# Altium footprint library LuxLogger_V2_pcb.PcbLib: 28 footprints (part 2 of 2)
Each footprint in its own frame and in the unit in brackets; x right, y up, seen from the top. Pads: shape width x height; smd on the part's side, far side on the other; paste and mask are expansions set on the pad; w line width, h text height; cw(c..) or ccw(c..) is an arc to the next point about the centre after c.
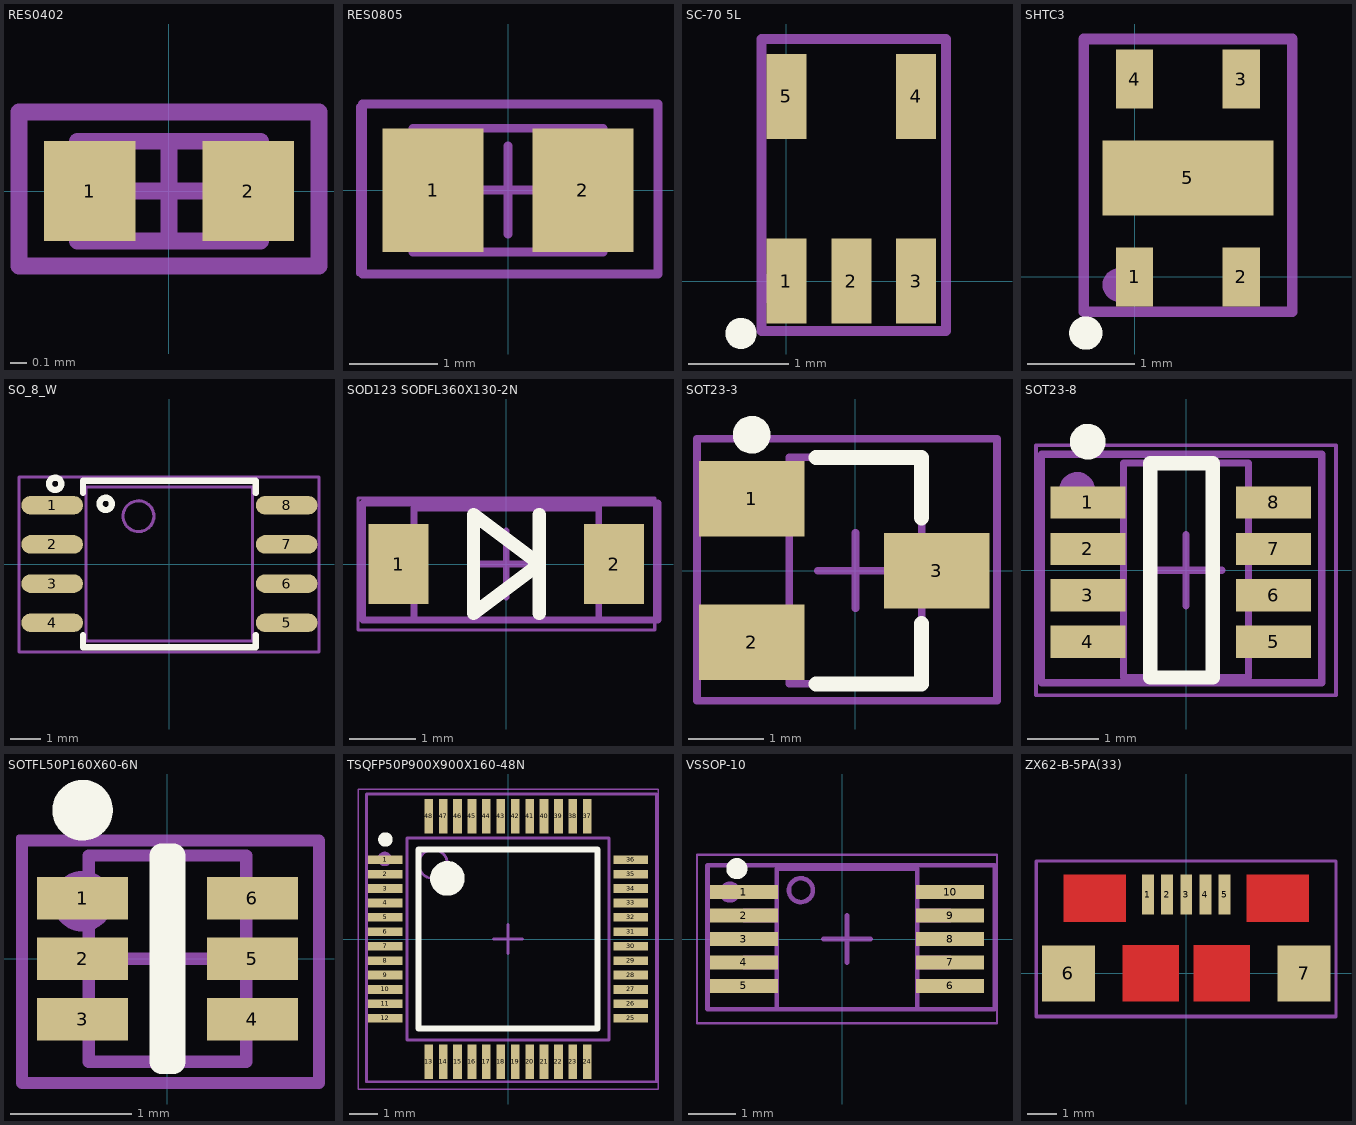
[diagram p1: the footprints below, top view; thin cyan lines are the x and y axes]

## RES0402 [mm]
pads (2):
  rect 0.55x0.6 smd: 1(-0.475,0) 2(0.475,0)
Mechanical 2:
Mechanical 13:
  lines w0.1: -0.55,-0.3 0.55,-0.3 0.55,0.3 -0.55,0.3 -0.55,-0.3
Mechanical 15:
  lines w0.05: -0.9,-0.45 0.9,-0.45 0.9,0.45 -0.9,0.45 -0.9,-0.45
  lines w0.1: -0.3,0 0.3,0 ; 0,-0.3 0,0.3
Mechanical 29:
  lines w0.1: -0.9,-0.45 0.9,-0.45 0.9,0.475 -0.9,0.475 -0.9,-0.45
  text "'.Designator'" at 0.692,0.248 h0.5
3D body: height 0.4, standoff 0, extent -0.55,-0.3 -0.35,0.3
3D body: height 0.4, standoff 0, extent -0.35,-0.3 0.35,0.3
3D body: height 0.4, standoff 0, extent 0.35,-0.3 0.55,0.3

## RES0805 [mm]
pads (2):
  rect 1.15x1.4 smd: 1(-0.85,0) 2(0.85,0)
Mechanical 2:
Mechanical 13:
  lines w0.1: -1.075,-0.7 -1.075,0.7 1.075,0.7 1.075,-0.7 -1.075,-0.7
Mechanical 15:
  lines w0.05: -1.7,-0.95 -1.7,0.95 1.7,0.95 1.7,-0.95 -1.7,-0.95
  lines w0.1: -0.5,0 0.5,0 ; 0,-0.5 0,0.5
Mechanical 29:
  lines w0.1: -1.65,-0.95 -1.65,0.975 1.7,0.975 1.7,-0.95 -1.65,-0.95
  text "'.Designator'" at 0.4,0.3 h0.5
3D body: height 0.65, standoff 0, extent -1.075,-0.7 -0.675,0.7
3D body: height 0.65, standoff 0, extent -0.675,-0.7 0.675,0.7
3D body: height 0.65, standoff 0, extent 0.675,-0.7 1.075,0.7

## SC-70 5L [mm]
pads (5):
  rect 0.4x0.85 smd: 1(0,0) 2(0.65,0) 3(1.3,0) 4(1.3,1.85) 5(0,1.85)
Top Overlay:
  circle w0.2: c-0.456,-0.525 r0.056
Mechanical 29:
  circle w0.2: c-0.144,-0.075 r0.056
  lines w0.1: -0.25,-0.5 1.6,-0.5 1.6,2.425 -0.25,2.425 -0.25,-0.5
  text "'.Designator'" at 0.059,0.548 h0.8
3D body: height 1.1, standoff 0, extent -0.45,0.25 1.75,1.6

## SHTC3 [mm]
pads (5):
  rect 0.35x0.55 smd: 1(0,0) 2(1,0) 3(1,1.85) 4(0,1.85)
  rect 1.6x0.7 smd: 5(0.5,0.925)
Top Overlay:
  circle w0.2: c-0.456,-0.525 r0.056
Mechanical 15:
  lines w0.1: -0.475,-0.325 1.475,-0.325 1.475,2.225 -0.475,2.225 -0.475,-0.325
Mechanical 29:
  circle w0.2: c-0.144,-0.075 r0.056
  lines w0.1: -0.475,-0.325 -0.475,2.225 1.475,2.225 1.475,-0.325 -0.475,-0.325
  text "'.Designator'" at 1.15,1.328 h0.8
3D body: height 0.75, standoff 0, extent -0.5,-0.075 1.5,1.925

## SO_8_W [mm]
pads (8):
  oval 2x0.6 smd: 1(-3.8,1.905) 2(-3.8,0.635) 3(-3.8,-0.635) 4(-3.8,-1.905) 5(3.8,-1.905) 6(3.8,-0.635) 7(3.8,0.635) 8(3.8,1.905)
Top Overlay:
  circle w0.2: c-3.7,2.6 r0.2
  circle w0.2: c-2.064,1.95 r0.2
  lines w0.2: -2.8,-2.3 -2.8,-2.7 2.8,-2.7 2.8,-2.3 ; -2.8,2.3 -2.8,2.7 2.8,2.7 2.8,2.3
Mechanical 13:
  circle w0.1: c-1,1.55 r0.5
  lines w0.1: -2.7,-2.5 -2.7,2.5 2.7,2.5 2.7,-2.5 -2.7,-2.5
Mechanical 29:
  circle w0.25: c-3.925,1.925 r0.125
  lines w0.1: -4.875,-2.85 -4.875,2.825 4.85,2.825 4.85,-2.85 -4.875,-2.85
  text "'.Designator'" at -1.906,-1.185 h1.52
3D body "User Library-SOIC8_Wide_5mmx5mm.step": height 1.75, standoff -0.01, extent -4.052,-2.73 4.05,2.73

## SOD123 SODFL360X130-2N [mm]
pads (2):
  rect 0.91x1.22 smd: 1(-1.635,0) 2(1.635,0)
Top Overlay:
  lines w0.2: 0.5,-0.75 0.5,0.75 0.5,0 ; 0.5,0 -0.5,0.75 -0.5,-0.75 0.5,0
Mechanical 13:
  lines w0.1: -1.4,-0.85 1.4,-0.85 1.4,0.85 -1.4,0.85 -1.4,-0.85
Mechanical 15:
  lines w0.05: -2.25,-1 2.25,-1 2.25,1 -2.25,1 -2.25,-1
  lines w0.1: -0.5,0 0.5,0 ; 0,-0.5 0,0.5
Mechanical 29:
  lines w0.1: -2.175,-0.85 -2.175,0.925 2.3,0.925 2.3,-0.85 -2.175,-0.85
  text "A" at -1.988,-0.607 h0.7
  text "'.Designator'" at -0.436,-0.329 h0.7
3D body: height 1.3, standoff 0, extent -1.4,-0.85 1.4,0.85

## SOT23-3 [mm]
pads (3):
  rect 1.4x1 smd: 1(-1.375,0.95) 2(-1.375,-0.95) 3(1.075,0)
Top Overlay:
  circle w0.25: c-1.375,1.8 r0.125
  lines w0.2: -0.525,-1.5 0.875,-1.5 0.875,-0.7 ; -0.525,1.5 0.875,1.5 0.875,0.7
Mechanical 13:
  lines w0.1: -0.875,-1.5 -0.875,1.5 0.875,1.5 0.875,-1.5 -0.875,-1.5
Mechanical 15:
  lines w0.05: -2.1,-1.75 -2.1,1.75 1.875,1.75 1.875,-1.75 -2.1,-1.75
  lines w0.1: -0.5,0 0.5,0 ; 0,-0.5 0,0.5
Mechanical 29:
  lines w0.1: -2.1,-1.725 1.875,-1.725 1.875,1.75 -2.1,1.75 -2.1,-1.725
  text "'.Designator'" at 0.776,0.519 h1
3D body "SOT95P280X110-3N.step": height 1.1, standoff 0, extent -1.7,-1.5 1.3,1.5

## SOT23-8 [mm]
pads (8):
  rect 1.05x0.45 smd: 1(-1.375,0.95) 2(-1.375,0.3) 3(-1.375,-0.35) 4(-1.375,-1) 5(1.225,-1) 6(1.225,-0.35) 7(1.225,0.3) 8(1.225,0.95)
Top Overlay:
  circle w0.25: c-1.375,1.8 r0.125
  lines w0.2: -0.5,-1.5 -0.5,1.5 0.375,1.5 0.375,-1.5 -0.5,-1.5
Mechanical 13:
  lines w0.1: -0.875,-1.5 0.875,-1.5 0.875,1.5 -0.875,1.5 -0.875,-1.5
Mechanical 15:
  lines w0.05: -2.1,-1.75 2.1,-1.75 2.1,1.75 -2.1,1.75 -2.1,-1.75
  lines w0.1: -0.5,0 0.5,0 ; 0,-0.5 0,0.5
Mechanical 29:
  circle w0.25: c-1.525,1.125 r0.125
  lines w0.1: -2.025,-1.575 1.9,-1.575 1.9,1.625 -2.025,1.625 -2.025,-1.575
  text "'.Designator'" at -0.814,-0.626 h1
3D body: height 1.1, standoff 0, extent -0.925,-1.425 0.725,1.525

## SOTFL50P160X60-6N [mm]
pads (6):
  rect 0.75x0.35 smd: 1(-0.7,0.5) 2(-0.7,0) 3(-0.7,-0.5) 4(0.7,-0.5) 5(0.7,0) 6(0.7,0.5)
Top Overlay:
  circle w0.25: c-0.7,1.225 r0.125
  lines w0.2: -0.05,-0.85 0.05,-0.85 0.05,0.85 -0.05,0.85 -0.05,-0.85
Mechanical 13:
  lines w0.1: -0.65,-0.85 -0.65,0.85 0.65,0.85 0.65,-0.85 -0.65,-0.85
Mechanical 15:
  lines w0.05: -1.225,-1 -1.225,1 1.225,1 1.225,-1 -1.225,-1
  lines w0.1: -0.5,0 0.5,0 ; 0,-0.5 0,0.5
Mechanical 29:
  circle w0.25: c-0.7,0.475 r0.125
  lines w0.1: -1.2,-1.025 -1.2,0.975 1.25,0.975 1.25,-1.025 -1.2,-1.025
  text "'.Designator'" at 0.596,-0.678 h0.8
3D body "DRL6.step": height 0.6, standoff 0, extent -0.85,-0.85 0.85,0.85

## TSQFP50P900X900X160-48N [mm]
pads (48):
  rect 1.2x0.3 smd: 1(-4.25,2.75) 2(-4.25,2.25) 3(-4.25,1.75) 4(-4.25,1.25) 5(-4.25,0.75) 6(-4.25,0.25) 7(-4.25,-0.25) 8(-4.25,-0.75) 9(-4.25,-1.25) 10(-4.25,-1.75) 11(-4.25,-2.25) 12(-4.25,-2.75) 25(4.25,-2.75) 26(4.25,-2.25) 27(4.25,-1.75) 28(4.25,-1.25) 29(4.25,-0.75) 30(4.25,-0.25) 31(4.25,0.25) 32(4.25,0.75) 33(4.25,1.25) 34(4.25,1.75) 35(4.25,2.25) 36(4.25,2.75)
  rect 0.3x1.2 smd: 13(-2.75,-4.25) 14(-2.25,-4.25) 15(-1.75,-4.25) 16(-1.25,-4.25) 17(-0.75,-4.25) 18(-0.25,-4.25) 19(0.25,-4.25) 20(0.75,-4.25) 21(1.25,-4.25) 22(1.75,-4.25) 23(2.25,-4.25) 24(2.75,-4.25) 37(2.75,4.25) 38(2.25,4.25) 39(1.75,4.25) 40(1.25,4.25) 41(0.75,4.25) 42(0.25,4.25) 43(-0.25,4.25) 44(-0.75,4.25) 45(-1.25,4.25) 46(-1.75,4.25) 47(-2.25,4.25) 48(-2.75,4.25)
Top Overlay:
  circle w0.6: c-2.1,2.1 r0.3
  circle w0.25: c-4.25,3.45 r0.125
  lines w0.2: -3.1,-3.1 3.1,-3.1 3.1,3.1 -3.1,3.1 -3.1,-3.1
Mechanical 13:
  circle w0.1: c-2.6,2.6 r0.5
  lines w0.1: -3.5,-3.5 -3.5,3.5 3.5,3.5 3.5,-3.5 -3.5,-3.5
Mechanical 15:
  lines w0.05: -5.2,-5.2 -5.2,5.2 5.2,5.2 5.2,-5.2 -5.2,-5.2
  lines w0.1: -0.5,0 0.5,0 ; 0,-0.5 0,0.5
Mechanical 29:
  circle w0.25: c-4.275,2.775 r0.125
  lines w0.1: -4.9,-4.95 5.15,-4.95 5.15,5.025 -4.9,5.025 -4.9,-4.95
  text "'.Designator'" at 0.9,1.163 h1.52
3D body: height 1.6, standoff 0.05, extent -3.5,-3.5 3.5,3.5

## VSSOP-10 [mm]
pads (10):
  rect 1.45x0.3 smd: 1(-2.1,1) 2(-2.1,0.5) 3(-2.1,0) 4(-2.1,-0.5) 5(-2.1,-1) 6(2.3,-1) 7(2.3,-0.5) 8(2.3,0) 9(2.3,0.5) 10(2.3,1)
Top Overlay:
  circle w0.25: c-2.25,1.5 r0.1
Mechanical 2:
Mechanical 13:
  circle w0.1: c-0.884,1.041 r0.254
  lines w0.1: -1.4,-1.1 -2.1,-1.1 -2.1,-1 -2.1,-0.9 -1.4,-0.9 ; -1.4,-0.6 -2.1,-0.6 -2.1,-0.5 -2.1,-0.4 -1.4,-0.4 ; -1.4,-0.1 -2.1,-0.1 -2.1,0 -2.1,0.1 -1.4,0.1 ; -1.4,0.4 -2.1,0.4 -2.1,0.5 -2.1,0.6 -1.4,0.6 ; -1.4,0.9 -2.1,0.9 -2.1,1 -2.1,1.1 -1.4,1.1 ; 1.6,-1.1 2.3,-1.1 2.3,-1 2.3,-0.9 1.6,-0.9 ; 1.6,-0.6 2.3,-0.6 2.3,-0.5 2.3,-0.4 1.6,-0.4 ; 1.6,-0.1 2.3,-0.1 2.3,0 2.3,0.1 1.6,0.1 ; 1.6,0.4 2.3,0.4 2.3,0.5 2.3,0.6 1.6,0.6 ; 1.6,0.9 2.3,0.9 2.3,1 2.3,1.1 1.6,1.1 ; -1.4,-1.5 -1.4,1.5 1.6,1.5 1.6,-1.5 -1.4,-1.5
Mechanical 15:
  lines w0.05: -3.1,-1.8 -3.1,1.8 3.3,1.8 3.3,-1.8 -3.1,-1.8
  lines w0.1: -0.4,0 0.6,0 ; 0.1,-0.5 0.1,0.5
Mechanical 29:
  circle w0.25: c-2.4,1 r0.1
  lines w0.1: -2.875,-1.5 -2.875,1.575 3.25,1.575 3.25,-1.5 -2.875,-1.5
  text "'.Designator'" at -1.75,-0.75 h1.52
3D body "User Library-msop-10.step": height 1.15, standoff 0, extent -2.35,-1.5 2.55,1.5

## ZX62-B-5PA(33) [mm]
pads (7):
  rect 0.4x1.35 smd: 1(-1.3,2.675) 2(-0.65,2.675) 3(0,2.675) 4(0.65,2.675) 5(1.3,2.675)
  rect 1.8x1.9 smd: 6(-4,0) 7(4,0)
Top Layer:
  region: 2.05,3.35 4.15,3.35 4.15,1.75 2.05,1.75
  region: -4.15,3.35 -2.05,3.35 -2.05,1.75 -4.15,1.75
  region: -2.15,0.95 -0.25,0.95 -0.25,-0.95 -2.15,-0.95
  region: 0.25,0.95 2.15,0.95 2.15,-0.95 0.25,-0.95
Top Paste:
  region: -4.15,3.35 -2.05,3.35 -2.05,1.75 -4.15,1.75
  region: 2.05,3.35 4.15,3.35 4.15,1.75 2.05,1.75
  region: -2.15,0.95 -0.25,0.95 -0.25,-0.95 -2.15,-0.95
  region: 0.25,0.95 2.15,0.95 2.15,-0.95 0.25,-0.95
Top Solder:
  region: -4.25,3.45 -1.95,3.45 -1.95,1.65 -4.25,1.65
  region: 1.95,3.45 4.25,3.45 4.25,1.65 1.95,1.65
  region: -2.25,1.05 -0.15,1.05 -0.15,-1.05 -2.25,-1.05
  region: 0.15,1.05 2.25,1.05 2.25,-1.05 0.15,-1.05
Mechanical 15:
  lines w0.1: -5.08,-1.45 5.08,-1.45 5.08,3.81 -5.08,3.81 -5.08,-1.45
Mechanical 29:
  lines w0.1: -5.095,-1.475 5.075,-1.475 5.075,3.811 -5.095,3.811 -5.095,-1.475
  text "'.Designator'" at -1.262,0.825 h1.52
3D body "ZX62-B-5PA.stp": height 2.75, standoff -0.2, extent -4.037,-2.679 4.036,2.921